# EAGLE library part AP63205WU-7 (library AP63205)
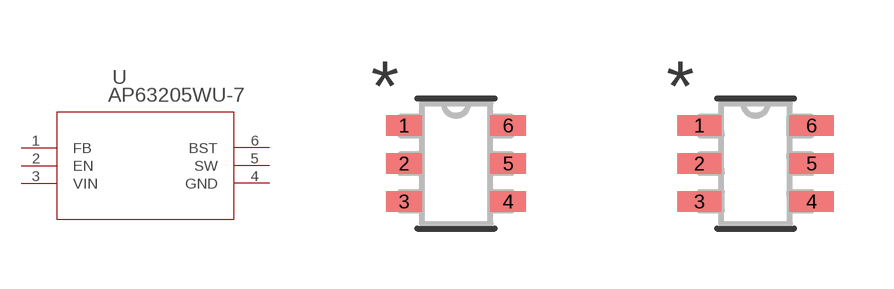
[diagram p0: symbol with the pads of SOIC_05WU-7_DIO; footprints SOIC_05WU-7_DIO, SOIC_05WU-7_DIO-M]

Designator prefix U

## AP63205WU-7 (BUILT_BY: EMA_Matt; COPYRIGHT: Copyright (C) 2018 Accelerated Designs. All rights reserved; MANUFACTURER_PART_NUMBER: AP63205WU-7; SOURCELIBRARY: Diodes_Inc_2019-12-05; VENDOR: Diodes Inc)  [SOIC_05WU-7_DIO]
1  FB  pas
2  EN  pas
3  VIN  pas
4  GND  pas
5  SW  pas
6  BST  pas

## AP63205WU-7SOIC_05WU-7_DIO-M (BUILT_BY: EMA_Matt; COPYRIGHT: Copyright (C) 2018 Accelerated Designs. All rights reserved; MANUFACTURER_PART_NUMBER: AP63205WU-7; SOURCELIBRARY: Diodes_Inc_2019-12-05; VENDOR: Diodes Inc)  [SOIC_05WU-7_DIO-M]
Pads as for SOIC_05WU-7_DIO

## AP63205WU-7SOIC_05WU-7_DIO-L (BUILT_BY: EMA_Matt; COPYRIGHT: Copyright (C) 2018 Accelerated Designs. All rights reserved; MANUFACTURER_PART_NUMBER: AP63205WU-7; SOURCELIBRARY: Diodes_Inc_2019-12-05; VENDOR: Diodes Inc)  [SOIC_05WU-7_DIO-L]
Pads as for SOIC_05WU-7_DIO

## Footprint SOIC_05WU-7_DIO (pad centres in mm)
smd 0.902 x 0.508: 1 -1.302,0.95; 2 -1.302,0; 3 -1.302,-0.95; 4 1.302,-0.95; 5 1.302,0; 6 1.302,0.95

## Footprint SOIC_05WU-7_DIO-M (pad centres in mm)
smd 1.105 x 0.508: 1 -1.403,0.95; 2 -1.403,0; 3 -1.403,-0.95; 4 1.403,-0.95; 5 1.403,0; 6 1.403,0.95

## Footprint SOIC_05WU-7_DIO-L (pad centres in mm)
smd 0.699 x 0.457: 1 -1.2,0.95; 2 -1.2,0; 3 -1.2,-0.95; 4 1.2,-0.95; 5 1.2,0; 6 1.2,0.95